# EAGLE library part HMC5883L-TR (library HMC5883L-TR)
HONEYWELL - HMC5883L-TR - IC, DIGITAL COMPASS, 3 AXIS, 16 PIN Source: Datasheet
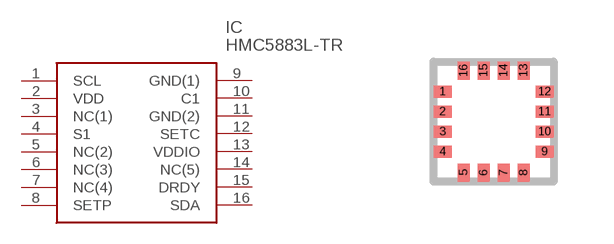
[diagram p0: symbol with the pads of 16-PIN-LPCC; footprint 16-PIN-LPCC]

Designator prefix IC

## HMC5883L-TR (Description: HONEYWELL - HMC5883L-TR - IC, DIGITAL COMPASS, 3 AXIS, 16 PIN; Height: mm; Manufacturer_Name: Honeywell; Manufacturer_Part_Number: HMC5883L-TR)  [16-PIN-LPCC]
1  SCL  in
2  VDD  in
3  NC(1)  in
4  S1  in
5  NC(2)  in
6  NC(3)  in
7  NC(4)  in
8  SETP  in
9  GND(1)  in
10  C1  in
11  GND(2)  in
12  SETC  in
13  VDDIO  in
14  NC(5)  in
15  DRDY  in
16  SDA  in

## Footprint 16-PIN-LPCC (pad centres in mm)
16-PIN-LPCC
smd 0.45 x 0.3: 1 -1.275,0.75; 2 -1.275,0.25; 3 -1.275,-0.25; 4 -1.275,-0.75; 9 1.275,-0.75; 10 1.275,-0.25; 11 1.275,0.25; 12 1.275,0.75
smd 0.3 x 0.45: 5 -0.75,-1.275; 6 -0.25,-1.275; 7 0.25,-1.275; 8 0.75,-1.275; 13 0.75,1.275; 14 0.25,1.275; 15 -0.25,1.275; 16 -0.75,1.275